# Altium schematic symbol library Sheye-Connector.SchLib: 120 symbols
Pins are listed as number, name and electrical type; pins without a type are passive.

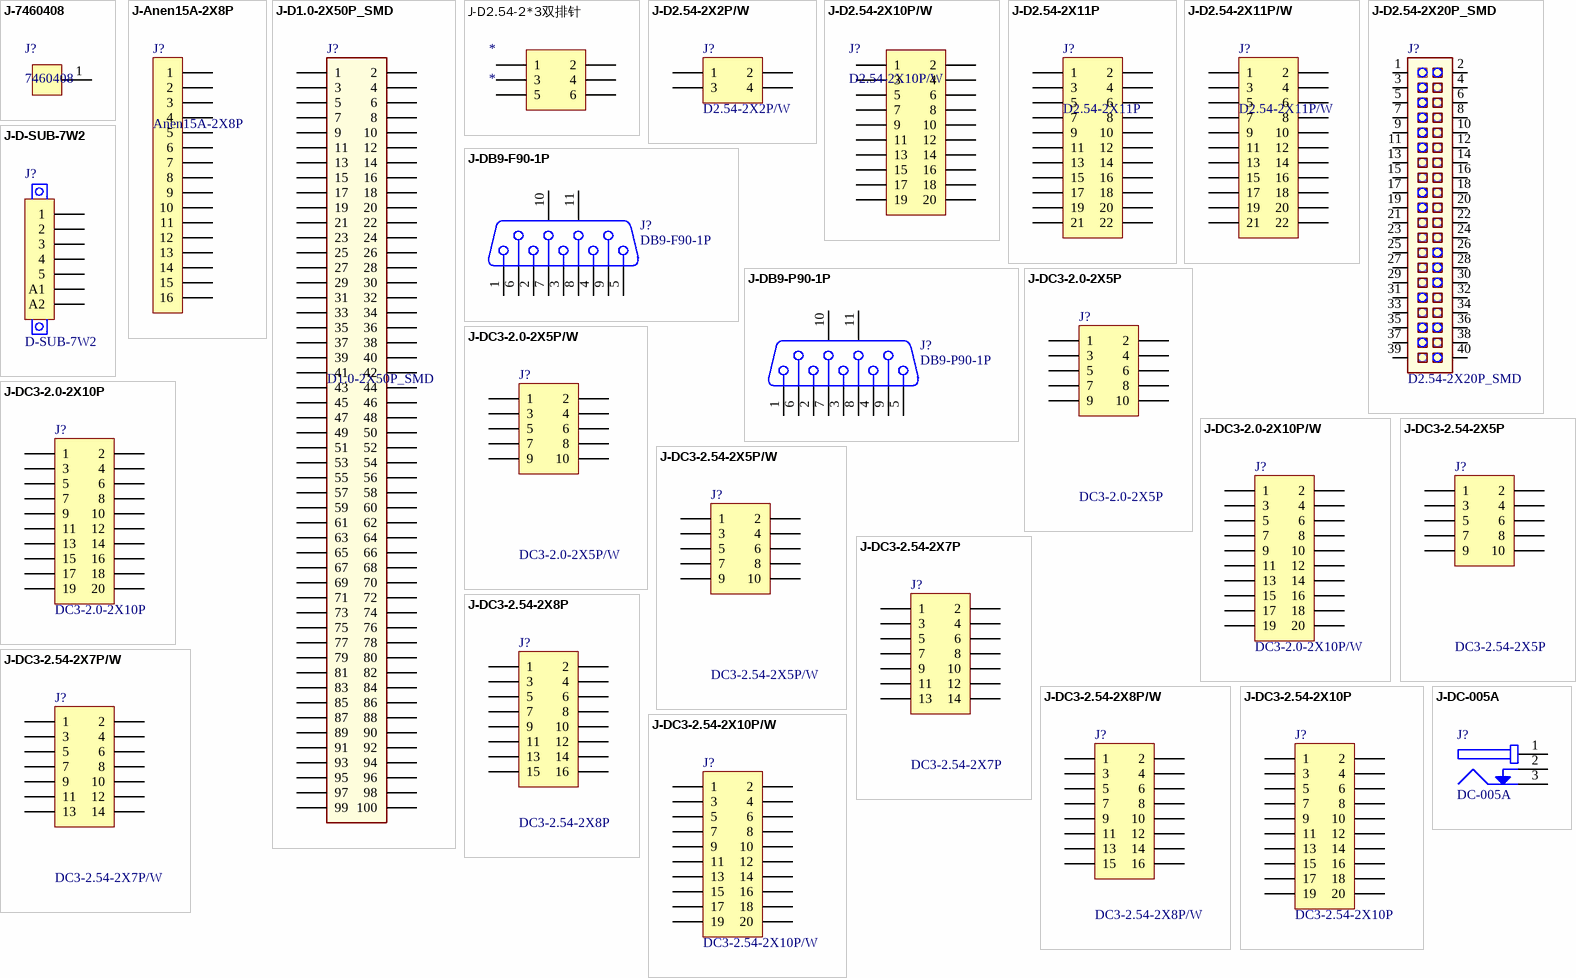
[diagram p0: symbols J-7460408 to J-DC-005A]

## J-7460408
designator J?, comment 7460408
PCB焊接导电螺栓; 生产商: 伍尔特; 货品编码: 无样品无编码; 规格型号: 7460408; 备注: *; 供应商: 伍尔特
footprint M5-PIN12F180 (PCB焊接导电螺栓)
pins: 1

## J-Anen15A-2X8P
designator J?, comment Anen15A-2X8P
单极电源连接器; 规格型号: 单级电源连接器 15A 插针 数目X2X8; 备注: 插针 清单数目要计算数目; 货品编码: 371046; 生产商: 安能; 供应商: 安能
footprint Anen15A-2X8P (单极电源连接器)
pins: 1, 2, 3, 4, 5, 6, 7, 8, 9, 10, 11, 12, 13, 14, 15, 16

## J-D1.0-2X50P_SMD
designator J?, comment D1.0-2X50P_SMD
双排排针-贴片; 规格型号: 3512x0M1110; 货品编码: 样品无编码; 供应商: Leyconn; 备注: *
footprint D1.0-2X50P_SMD (Footprint not found)
footprint J-D1.0-2X50P-F
pins: 1, 2, 3, 4, 5, 6, 7, 8, 9, 10, 11, 12, 13, 14, 15, 16, 17, 18, 19, 20, 21, 22, 23, 24, 25, 26, 27, 28, 29, 30, 31, 32, 33, 34, 35, 36, 37, 38, 39, 40, 41, 42, 43, 44, 45, 46, 47, 48, 49, 50, 51, 52, 53, 54, 55, 56, 57, 58, 59, 60, 61, 62, 63, 64, 65, 66, 67, 68, 69, 70, 71, 72, 73, 74, 75, 76, 77, 78, 79, 80, 81, 82, 83, 84, 85, 86, 87, 88, 89, 90, 91, 92, 93, 94, 95, 96, 97, 98, 99, 100

## J-D2.54-2*3双排针
designator *
footprint J-D2.54-2*3 (Footprint not found)
pins: 1, 2, 3, 4, 5, 6

## J-D2.54-2X2P/W
designator J?, comment D2.54-2X2P/W
双排排针-弯针; 规格型号: D2.54-2X11P/W; 货品编码: 372016; 供应商: *; 备注: *
footprint D2.54-2X2P/W/S1 (Footprint not found)
pins: 1, 2, 3, 4

## J-D2.54-2X10P/W
designator J?, comment D2.54-2X10P/W
双排排针-弯针; 规格型号: D2.54-2X10P/W
footprint D2.54-2X10P/W/S1 (Footprint not found)
pins: 1, 2, 3, 4, 5, 6, 7, 8, 9, 10, 11, 12, 13, 14, 15, 16, 17, 18, 19, 20

## J-D2.54-2X11P
designator J?, comment D2.54-2X11P
双排排针-直针; 货品编码: 样品无编码; 供应商: *; 规格型号: D2.54-2X11; 备注: *
footprint D2.54-2X11P (DUAL_ROW_Pin_R2.54-11P)
pins: 1, 2, 3, 4, 5, 6, 7, 8, 9, 10, 11, 12, 13, 14, 15, 16, 17, 18, 19, 20, 21, 22

## J-D2.54-2X11P/W
designator J?, comment D2.54-2X11P/W
双排排针-弯针; 货品编码: 372016; 供应商: *; 规格型号: D2.54-2X11P/W; 备注: *
footprint D2.54-2X11P/W/S1 (DUAL_ROW_Pin_R2.54-11P)
pins: 1, 2, 3, 4, 5, 6, 7, 8, 9, 10, 11, 12, 13, 14, 15, 16, 17, 18, 19, 20, 21, 22

## J-D2.54-2X20P_SMD
designator J?, comment D2.54-2X20P_SMD
双排排针-直针SMD; 规格型号: 1B29240_双排SMD-2x20P; 货品编码: 样品无编码; 供应商: ASTRON; 备注: *
footprint D2.54-2X20P_SMD
pins: 1, 2, 3, 4, 5, 6, 7, 8, 9, 10, 11, 12, 13, 14, 15, 16, 17, 18, 19, 20, 21, 22, 23, 24, 25, 26, 27, 28, 29, 30, 31, 32, 33, 34, 35, 36, 37, 38, 39, 40

## J-D-SUB-7W2
designator J?, comment D-SUB-7W2
接插件-弯针大电流; 货品编码: 样品无编码; 生产商: 创宇伟业; 供应商: *; 规格型号: D-SUB-7W2; 备注: *
footprint J-SUB-7W2
pins: 1, 2, 3, 4, 5, A1, A2

## J-DB9-F90-1P
designator J?, comment DB9-F90-1P
DB9-母座弯脚; 货品编码: 221010; 供应商: *; 规格型号: *; 备注: *
footprint DB9-F90-1P (DSUB-DB9L母)
pins: 1, 2, 3, 4, 5, 6, 7, 8, 9, 10 MH1, 11 MH2

## J-DB9-P90-1P
designator J?, comment DB9-P90-1P
DB9-公头弯脚; 规格型号: D-SUB9针 公头弯脚 单层 直插 有螺母; 货品编码: 无样品无编码; 供应商: *; 备注: *
footprint DB9-P90-1P (DSUB-DB9L公)
pins: 1, 2, 3, 4, 5, 6, 7, 8, 9, 10 MH1, 11 MH2

## J-DC3-2.0-2X5P
designator J?, comment DC3-2.0-2X5P
简牛插座-直针; 规格型号: 间距2.0 DC3 双排5P 简牛插座-直针; 货品编码: 无样品无编码; 生产商: 欧朗电子; 供应商: 欧朗电子; 备注: *
footprint DC3-2.0-2X5P (DC3-2.0-2X5P直脚)
pins: 1, 2, 3, 4, 5, 6, 7, 8, 9, 10

## J-DC3-2.0-2X5P/W
designator J?, comment DC3-2.0-2X5P/W
简牛插座-弯针; 规格型号: 间距2.0 DC3 双排5P 简牛插座-弯针; 货品编码: 无样品无编码; 生产商: 欧朗电子; 供应商: 欧朗电子; 备注: *
footprint DC3-2.0-2X5P/W (DC3-2.0-2x5P弯脚)
pins: 1, 2, 3, 4, 5, 6, 7, 8, 9, 10

## J-DC3-2.0-2X10P
designator J?, comment DC3-2.0-2X10P
简牛插座-直针; 规格型号: 间距2.0 DC3 双排10P 简牛插座-直针; 货品编码: 无样品无编码; 生产商: 欧朗电子; 供应商: 欧朗电子; 备注: *
footprint DC3-2.0-2X10P (DC3-2.0-2x10P直脚)
pins: 1, 2, 3, 4, 5, 6, 7, 8, 9, 10, 11, 12, 13, 14, 15, 16, 17, 18, 19, 20

## J-DC3-2.0-2X10P/W
designator J?, comment DC3-2.0-2X10P/W
简牛插座-弯针; 规格型号: 间距2.0 DC3 双排10P 简牛插座-弯针; 货品编码: 无样品无编码; 生产商: 欧朗电子; 供应商: 欧朗电子; 备注: *
footprint DC3-2.0-2X10P/W (DC3-2.0-2x10P弯脚)
pins: 1, 2, 3, 4, 5, 6, 7, 8, 9, 10, 11, 12, 13, 14, 15, 16, 17, 18, 19, 20

## J-DC3-2.54-2X5P
designator J?, comment DC3-2.54-2X5P
简牛插座-直针; 规格型号: 间距2.54 DC3 双排5P 简牛插座-直针; 货品编码: 371064; 生产商: 欧朗电子; 供应商: 欧朗电子; 备注: *
footprint DC3-2.54-2X5P (DC3-2.54-2x5P直脚)
pins: 1, 2, 3, 4, 5, 6, 7, 8, 9, 10

## J-DC3-2.54-2X5P/W
designator J?, comment DC3-2.54-2X5P/W
简牛插座-弯针; 规格型号: 间距2.54 DC3 双排5P 简牛插座-弯针; 货品编码: 无样品无编码; 生产商: 欧朗电子; 供应商: 欧朗电子; 备注: *
footprint DC3-2.54-2X5P/W (DC3-2.54-2x5P弯脚)
pins: 1, 2, 3, 4, 5, 6, 7, 8, 9, 10

## J-DC3-2.54-2X7P
designator J?, comment DC3-2.54-2X7P
简牛插座-直针; 规格型号: 间距2.54 DC3 双排7P 简牛插座-直针; 货品编码: 无样品无编码; 生产商: 欧朗电子; 供应商: 欧朗电子; 备注: *
footprint DC3-2.54-2X7P (DC3-2.54-2x7P直脚)
pins: 1, 2, 3, 4, 5, 6, 7, 8, 9, 10, 11, 12, 13, 14

## J-DC3-2.54-2X7P/W
designator J?, comment DC3-2.54-2X7P/W
简牛插座-弯针; 规格型号: 间距2.54 DC3 双排7P 简牛插座-弯针; 货品编码: 无样品无编码; 生产商: 欧朗电子; 供应商: 欧朗电子; 备注: *
footprint DC3-2.54-2X7P/W (DC3-2.54-2x7P弯脚)
pins: 1, 2, 3, 4, 5, 6, 7, 8, 9, 10, 11, 12, 13, 14

## J-DC3-2.54-2X8P
designator J?, comment DC3-2.54-2X8P
简牛插座-直针; 规格型号: 间距2.54 DC3 双排8P 简牛插座-直针; 货品编码: 无样品无编码; 生产商: 欧朗电子; 供应商: 欧朗电子; 备注: *
footprint DC3-2.54-2X8P (DC3-2.54-2x8P直脚)
pins: 1, 2, 3, 4, 5, 6, 7, 8, 9, 10, 11, 12, 13, 14, 15, 16

## J-DC3-2.54-2X8P/W
designator J?, comment DC3-2.54-2X8P/W
简牛插座-弯针; 规格型号: 间距2.54 DC3 双排8P 简牛插座-弯针; 货品编码: 无样品无编码; 生产商: 欧朗电子; 供应商: 欧朗电子; 备注: *
footprint DC3-2.54-2X8P/W (DC3-2.54-2x8P弯脚)
pins: 1, 2, 3, 4, 5, 6, 7, 8, 9, 10, 11, 12, 13, 14, 15, 16

## J-DC3-2.54-2X10P
designator J?, comment DC3-2.54-2X10P
简牛插座-直针; 规格型号: 间距2.54 DC3 双排10P 简牛插座-直针; 货品编码: 371101; 生产商: 欧朗电子; 供应商: 欧朗电子; 备注: *
footprint DC3-2.54-2X10P (DC3-2.54-2x10P直脚)
pins: 1, 2, 3, 4, 5, 6, 7, 8, 9, 10, 11, 12, 13, 14, 15, 16, 17, 18, 19, 20

## J-DC3-2.54-2X10P/W
designator J?, comment DC3-2.54-2X10P/W
简牛插座-弯针; 规格型号: 间距2.54 DC3 双排10P 简牛插座-弯针; 货品编码: 无样品无编码; 生产商: 欧朗电子; 供应商: 欧朗电子; 备注: *
footprint DC3-2.54-2X10P/W (DC3-2.54-2x10P弯脚)
pins: 1, 2, 3, 4, 5, 6, 7, 8, 9, 10, 11, 12, 13, 14, 15, 16, 17, 18, 19, 20

## J-DC-005A
designator J?, comment DC-005A
DC Jack; 规格型号: J-DC-005A 华锋电子; 货品编码: 225008; 备注: *
footprint J-DC-005A
pins: 1 IN, 2 GND, 3 GND

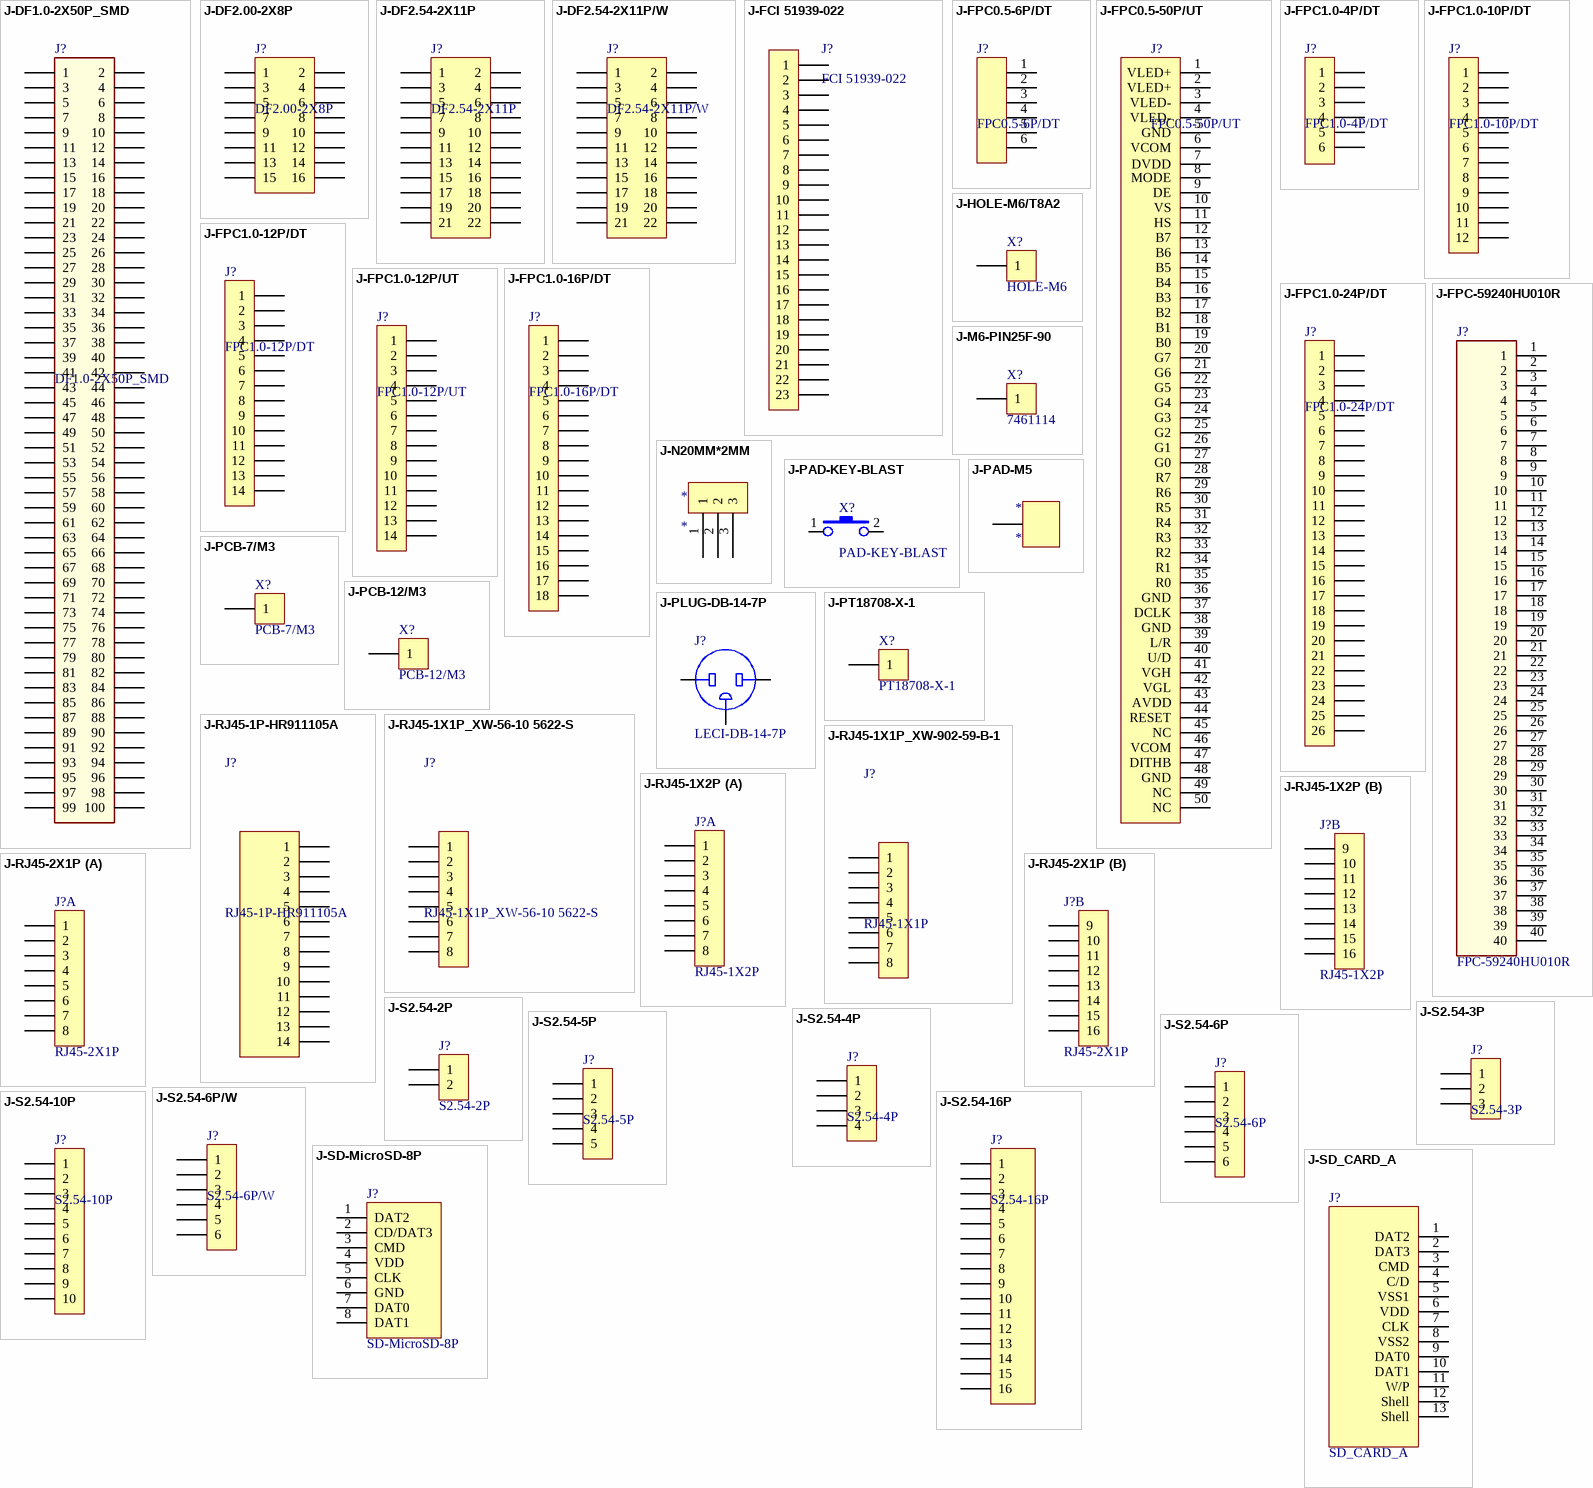
[diagram p1: symbols J-DF1.0-2X50P_SMD to J-SD_CARD_A]

## J-DF1.0-2X50P_SMD
designator J?, comment DF1.0-2X50P_SMD
双排排母-贴片; 规格型号: 2522x0M1110; 货品编码: 样品无编码; 供应商: Leyconn; 备注: *
footprint DF1.0-2X50P_SMD (Footprint not found)
pins: 1, 2, 3, 4, 5, 6, 7, 8, 9, 10, 11, 12, 13, 14, 15, 16, 17, 18, 19, 20, 21, 22, 23, 24, 25, 26, 27, 28, 29, 30, 31, 32, 33, 34, 35, 36, 37, 38, 39, 40, 41, 42, 43, 44, 45, 46, 47, 48, 49, 50, 51, 52, 53, 54, 55, 56, 57, 58, 59, 60, 61, 62, 63, 64, 65, 66, 67, 68, 69, 70, 71, 72, 73, 74, 75, 76, 77, 78, 79, 80, 81, 82, 83, 84, 85, 86, 87, 88, 89, 90, 91, 92, 93, 94, 95, 96, 97, 98, 99, 100

## J-DF2.00-2X8P
designator J?, comment DF2.00-2X8P
双排排母-直针; 货品编码: 无样品无编码; 供应商: *; 规格型号: DF2.00-2X8P; 备注: *
footprint DF2.00-2X8P (DUAL_ROW_FEMALE_D2.00-8P)
footprint DF2.00-2X8P (DUAL_ROW_FEMALE_D2.00-8P)
pins: 1, 2, 3, 4, 5, 6, 7, 8, 9, 10, 11, 12, 13, 14, 15, 16

## J-DF2.54-2X11P
designator J?, comment DF2.54-2X11P
双排排母-直针; 货品编码: 372017; 供应商: *; 规格型号: DF2.54-2X11P; 备注: *
footprint DF2.54-2X11P (DUAL_ROW_FEMALE_D2.54-11P)
pins: 1, 2, 3, 4, 5, 6, 7, 8, 9, 10, 11, 12, 13, 14, 15, 16, 17, 18, 19, 20, 21, 22

## J-DF2.54-2X11P/W
designator J?, comment DF2.54-2X11P/W
双排排母-弯针; 货品编码: 无样品无编码; 供应商: *; 规格型号: DF2.54-2X11P/W; 备注: *
footprint DF2.54-2X11P/W/S1 (DUAL_ROW_FEMALE_R2.54-11P)
pins: 1, 2, 3, 4, 5, 6, 7, 8, 9, 10, 11, 12, 13, 14, 15, 16, 17, 18, 19, 20, 21, 22

## J-FCI 51939-022
designator J?, comment FCI 51939-022
热插拔端子; 货品编码: 样品无编码; 规格型号: FCI 51939-022 热插拔输入输出端子; 生产商: *; 备注: *; 供应商: *
footprint FCI 51939-022 (Footprint not found)
pins: 1, 2, 3, 4, 5, 6, 7, 8, 9, 10, 11, 12, 13, 14, 15, 16, 17, 18, 19, 20, 21, 22, 23

## J-FPC0.5-6P/DT
designator J?, comment FPC0.5-6P/DT
FPC端子; 规格型号: FPC0.5-6P/DT 6P 脚间距0.5mm 下接触 抽屉式; 货品编码: 样品无编码; 供应商: *; 备注: *
footprint FPC0.5-6P/DT
footprint FPC0.5-6P/DT
pins: 1, 2, 3, 4, 5, 6

## J-FPC0.5-50P/UT
designator J?, comment FPC0.5-50P/UT
FPC端子; 规格型号: FPC0.5-50P/UT 50P 脚间距0.5mm 上接触 推进式; 货品编码: 样品无编码; 供应商: *; 备注: *
footprint FPC0.5-50P/UT (Footprint not found)
footprint FPC0.5-50P/UT
pins: 1 VLED+, 2 VLED+, 3 VLED-, 4 VLED-, 5 GND, 6 VCOM, 7 DVDD, 8 MODE, 9 DE, 10 VS, 11 HS, 12 B7, 13 B6, 14 B5, 15 B4, 16 B3, 17 B2, 18 B1, 19 B0, 20 G7, 21 G6, 22 G5, 23 G4, 24 G3, 25 G2, 26 G1, 27 G0, 28 R7, 29 R6, 30 R5, 31 R4, 32 R3, 33 R2, 34 R1, 35 R0, 36 GND, 37 DCLK, 38 GND, 39 L/R, 40 U/D, 41 VGH, 42 VGL, 43 AVDD, 44 RESET, 45 NC, 46 VCOM, 47 DITHB, 48 GND, 49 NC, 50 NC

## J-FPC1.0-4P/DT
designator J?, comment FPC1.0-4P/DT
FPC端子; 规格型号: FPC 4P 脚间距1.0mm 下接触 抽屉式; 货品编码: 样品无编码; 供应商: *; 备注: *
footprint FPC1.0-4P/DT
footprint FPC1.0-4P/DT
pins: 1, 2, 3, 4, 5, 6

## J-FPC1.0-10P/DT
designator J?, comment FPC1.0-10P/DT
FPC端子; 规格型号: FPC 10P 脚间距1.0mm 下接触 抽屉式; 货品编码: 371063; 供应商: *; 备注: *
footprint FPC1.0-10P/DT
pins: 1, 2, 3, 4, 5, 6, 7, 8, 9, 10, 11, 12

## J-FPC1.0-12P/DT
designator J?, comment FPC1.0-12P/DT
FPC端子; 规格型号: FPC 12P 脚间距1.0mm 下接触 抽屉式; 货品编码: 371062; 供应商: *; 备注: *
footprint FPC1.0-12P/DT (Footprint not found)
pins: 1, 2, 3, 4, 5, 6, 7, 8, 9, 10, 11, 12, 13, 14

## J-FPC1.0-12P/UT
designator J?, comment FPC1.0-12P/UT
FPC端子; 规格型号: FPC 12P 脚间距1.0mm 上接触 抽屉式; 货品编码: 371060; 供应商: *; 备注: *
footprint FPC1.0-12P/UT
pins: 1, 2, 3, 4, 5, 6, 7, 8, 9, 10, 11, 12, 13, 14

## J-FPC1.0-16P/DT
designator J?, comment FPC1.0-16P/DT
FPC端子; 规格型号: FPC 16P 脚间距1.0mm 下接触 抽屉式; 货品编码: 371061; 供应商: *; 备注: *
footprint FPC1.0-16P/DT
pins: 1, 2, 3, 4, 5, 6, 7, 8, 9, 10, 11, 12, 13, 14, 15, 16, 17, 18

## J-FPC1.0-24P/DT
designator J?, comment FPC1.0-24P/DT
FPC端子; 规格型号: FPC 24P 脚间距1.0mm 下接触 推进式; 货品编码: 371059; 供应商: *; 备注: *
footprint FPC1.0-24P/DT
pins: 1, 2, 3, 4, 5, 6, 7, 8, 9, 10, 11, 12, 13, 14, 15, 16, 17, 18, 19, 20, 21, 22, 23, 24, 25, 26

## J-FPC-59240HU010R
designator J?, comment FPC-59240HU010R
液晶屏接口; 货品编码: 样品无编码; 生产商: Leyconn; 规格型号: 59240HU010R; 备注: *
footprint FPC-59240HU010R
pins: 1, 2, 3, 4, 5, 6, 7, 8, 9, 10, 11, 12, 13, 14, 15, 16, 17, 18, 19, 20, 21, 22, 23, 24, 25, 26, 27, 28, 29, 30, 31, 32, 33, 34, 35, 36, 37, 38, 39, 40

## J-HOLE-M6/T8A2
designator X?, comment HOLE-M6
六角涨铆螺母; 规格型号: 六角涨铆螺母M6 六角部高8mm 铆接部高2mm; 货品编码: 374001; 备注: *; 供应商: *
footprint HOLE-M6 (HOLE5)
pins: 1

## J-M6-PIN25F-90
designator X?, comment 7461114
PCB焊接导电螺栓; 备注: M6 25全脚 90度侧面安装; 货品编码: 372026; 生产商: WURTH ELEKTRONIK; 供应商: WE; 规格型号: 7461114
footprint M6-PIN25F-90 (PCB焊接导电螺栓)
footprint M6-PIN25F-90 (PCB焊接导电螺栓)
pins: 1

## J-N20MM*2MM
designator *
footprint J-N20MM*2MM (Footprint not found)
pins: 1, 2, 3

## J-PAD-KEY-BLAST
designator X?, comment PAD-KEY-BLAST
焊盘; 货品编码: 非物料忽略; 供应商: *; 备注: *; 规格型号: PAD-KEY-BLAST
footprint PAD-KEY-BLAST
footprint PAD-KEY-BLAST
pins: 1, 2, 3, 4, 5, 6

## J-PAD-M5
designator *
footprint J-PAD-M5 (Footprint not found)
pins: 1

## J-PCB-7/M3
designator X?, comment PCB-7/M3
PCB焊接端子; 货品编码: 372024; 生产商: 康扬; 供应商: 康扬; 备注: *; 规格型号: PCB-7/M3
footprint PCB-7/M3 (PCB焊接端子)
footprint PCB-7/M3 (PCB焊接端子)
pins: 1

## J-PCB-12/M3
designator X?, comment PCB-12/M3
PCB焊接端子; 货品编码: 372012; 生产商: 康扬; 供应商: 康扬; 备注: *; 规格型号: PCB-12/M3
footprint PCB-12/M3
pins: 1

## J-PLUG-DB-14-7P
designator J?, comment LECI-DB-14-7P
电源插座; 货品编码: 225010; 生产商: LECI; 规格型号: LECI-DB-14-7P; 供应商: LECI; 备注: *
footprint LECI-DB-14-7P (DB-14-7P)
pins: 1, 2, 3

## J-PT18708-X-1
designator X?, comment PT18708-X-1
插片; 货品编码: 391009; 生产商: 乐清合力电子; 备注: *; 供应商: 乐清合力电子; 规格型号: PT18708-X-1
footprint PT18708-X-1
pins: 1

## J-RJ45-1P-HR911105A
designator J?, comment RJ45-1P-HR911105A
RJ45插座-隔离带灯; 规格型号: HR911105A 1P  隔离 带灯; 货品编码: 371027; 供应商: 中三汉仁; 备注: *
footprint RJ45-HR911105A-1P (RJ45-HR911105A)
pins: 1, 2, 3, 4, 5, 6, 7, 8, 9, 10, 11, 12, 13, 14

## J-RJ45-1X1P_XW-56-10 5622-S
designator J?, comment RJ45-1X1P_XW-56-10 5622-S
RJ45插座-非隔离不带灯; 规格型号: RJ45插座1P  非隔离 不带灯; 货品编码: 371026; 供应商: 迅旺电子科技; 备注: *
footprint RJ45-1P (RJ45-1)
pins: 1, 2, 3, 4, 5, 6, 7, 8

## J-RJ45-1X1P_XW-902-59-B-1
designator J?, comment RJ45-1X1P
RJ45插座1X1P非隔离不带灯; 品牌: 东莞迅旺; 规格型号: W-902-59-B-1 5921S 10P8C-1X1-F4.57; 货品编码: 372028; 供应商: 东莞迅旺; 备注: RJ45插座1X1P非隔离不带灯
footprint RJ45-10P8C-1X1-F4.57 (东莞迅旺 1X1 8PIN脚 非隔离不带灯XW-902-59-B-1)
pins: 1, 2, 3, 4, 5, 6, 7, 8

## J-RJ45-1X2P
designator J?, comment RJ45-1X2P
RJ45插座-非隔离不带灯; 规格型号: RJ45插座 1X2P 单层双座 非隔离 不带灯; 货品编码: 样品无编码; 供应商: *; 备注: *
footprint RJ45-1X2P (RJ45-1x2)
part A pins: 1, 2, 3, 4, 5, 6, 7, 8
part B pins: 9, 10, 11, 12, 13, 14, 15, 16

## J-RJ45-2X1P
designator J?, comment RJ45-2X1P
RJ45插座-非隔离不带灯; 规格型号: RJ45插座 2X1P 高低双层非 隔离 不带灯; 备注: XW-914-68-1 5921S 8P8C-2X1; 货品编码: 371100; 供应商: 东莞市迅旺电子
footprint RJ45-2X1P (RJ45-2x1)
part A pins: 1, 2, 3, 4, 5, 6, 7, 8
part B pins: 9, 10, 11, 12, 13, 14, 15, 16

## J-S2.54-2P
designator J?, comment S2.54-2P
单排排针-直针; 货品编码: 372013; 供应商: *; 规格型号: S2.54-2P; 备注: *
footprint S2.54-2P (Footprint not found)
pins: 1, 2

## J-S2.54-3P
designator J?, comment S2.54-3P
单排排针-直针; 货品编码: 372015; 供应商: *; 规格型号: S2.54-3P; 备注: *
footprint S2.54-3P (Footprint not found)
pins: 1, 2, 3

## J-S2.54-4P
designator J?, comment S2.54-4P
单排排针-直针; 货品编码: 样品无编码; 供应商: *; 规格型号: S2.54-4P; 备注: *
footprint S2.54-4P (Footprint not found)
pins: 1, 2, 3, 4

## J-S2.54-5P
designator J?, comment S2.54-5P
单排排针-直针; 货品编码: 样品无编码; 供应商: *; 规格型号: S2.54-5P; 备注: *
footprint S2.54-5P (P-SIP5)
pins: 1, 2, 3, 4, 5

## J-S2.54-6P
designator J?, comment S2.54-6P
单排排针-直针; 备注: 不可用伍尔特的料; 货品编码: 372002; 供应商: *; 规格型号: S2.54-6P
footprint S2.54-6P (P-SIP6)
pins: 1, 2, 3, 4, 5, 6

## J-S2.54-6P/W
designator J?, comment S2.54-6P/W
单排排针-弯针; 货品编码: 样品无编码; 供应商: *; 规格型号: S2.54-6P/W; 备注: *
footprint S2.54-6P/W (P-SIP6-W)
pins: 1, 2, 3, 4, 5, 6

## J-S2.54-10P
designator J?, comment S2.54-10P
单排排针-直针; 货品编码: 样品无编码; 供应商: *; 规格型号: S2.54-10P; 备注: *
footprint S2.54-10P (P-SIP10)
pins: 1, 2, 3, 4, 5, 6, 7, 8, 9, 10

## J-S2.54-16P
designator J?, comment S2.54-16P
单排排针-直针; 货品编码: 样品无编码; 供应商: *; 规格型号: S2.54-16P; 备注: *
footprint S2.54-16P (P-SIP16)
pins: 1, 2, 3, 4, 5, 6, 7, 8, 9, 10, 11, 12, 13, 14, 15, 16

## J-SD-MicroSD-8P
designator J?, comment SD-MicroSD-8P
SD卡座 Micro 8P翻盖式; 货品编码: 样品无编码; 生产商: 锐泰科技
footprint MicroSD-8P
pins: 1 DAT2, 2 CD/DAT3, 3 CMD, 4 VDD (power), 5 CLK, 6 GND, 7 DAT0 (power), 8 DAT1

## J-SD_CARD_A
designator J?, comment SD_CARD_A
SD卡座; 规格型号: SD卡座 自弹 插入检测; 货品编码: 233011; 供应商: *; 备注: *
footprint SD_CARD_A
pins: 1 DAT2, 2 DAT3, 3 CMD, 4 C/D (power), 5 VSS1, 6 VDD, 7 CLK (power), 8 VSS2, 9 DAT0, 10 DAT1, 11 W/P, 12 Shell, 13 Shell

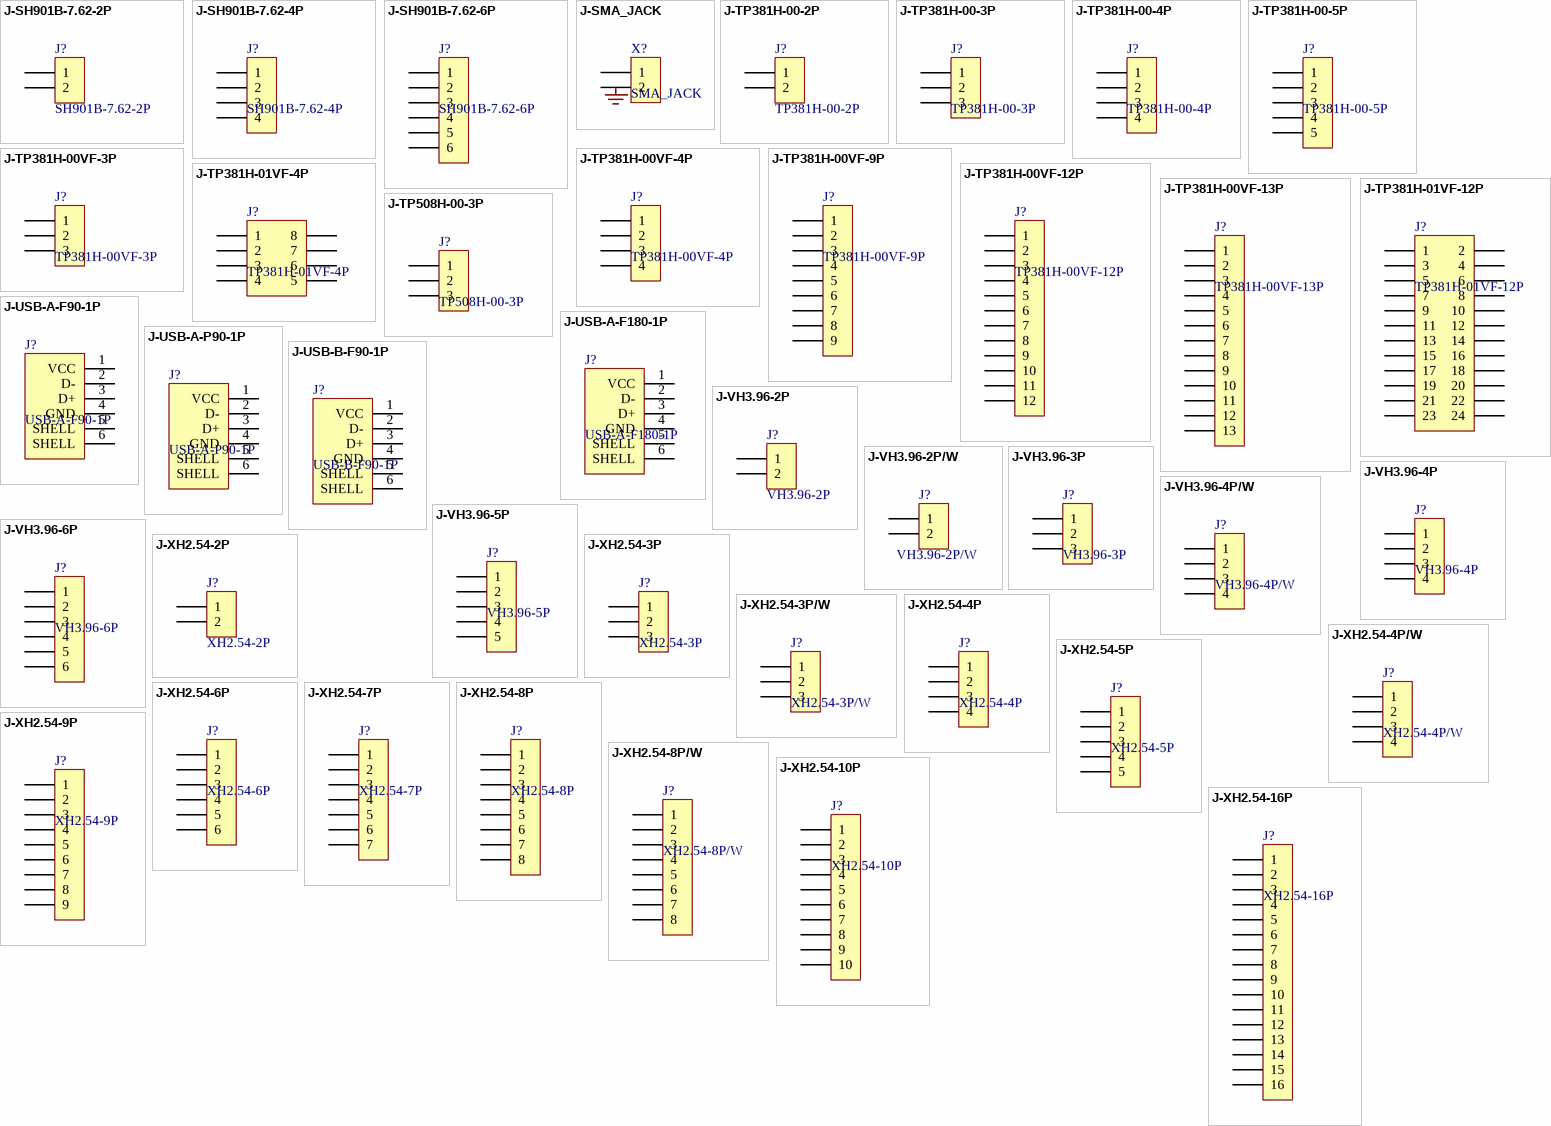
[diagram p2: symbols J-SH901B-7.62-2P to J-XH2.54-16P]

## J-SH901B-7.62-2P
designator J?, comment SH901B-7.62-2P
栅栏端子-直针; 规格型号: SH901B-7.62-2P 直针; 货品编码: 371044; 供应商: *; 备注: *
footprint SH901-7.62-2P
pins: 1, 2

## J-SH901B-7.62-4P
designator J?, comment SH901B-7.62-4P
栅栏端子-直针; 规格型号: SH901B-7.62-4P 直针; 货品编码: 371031; 供应商: *; 备注: *
footprint SH901-7.62-4P
pins: 1, 2, 3, 4

## J-SH901B-7.62-6P
designator J?, comment SH901B-7.62-6P
栅栏端子-直针; 规格型号: SH901B-7.62-6P 直针; 货品编码: 371032; 供应商: *; 备注: *
footprint SH901-7.62-6P
pins: 1, 2, 3, 4, 5, 6

## J-SMA_JACK
designator X?, comment SMA_JACK
四角直头; 备注: 天线插座; 货品编码: 221009; 供应商: *; 规格型号: SMA_JACK
footprint SMA_JACK
footprint SMA_JACK
pins: 1, 2

## J-TP381H-00-2P
designator J?, comment TP381H-00-2P
接插件-3.81立式; 备注: 3.81 2P 不带锁插座; 货品编码: 371070; 供应商: *; 规格型号: TP381H-00-2P
footprint TP381H-00-2P
pins: 1, 2

## J-TP381H-00-3P
designator J?, comment TP381H-00-3P
接插件-3.81立式; 备注: 3.81 3P 不带锁插座; 货品编码: 371072; 供应商: *; 规格型号: TP381H-00-3P
footprint TP381H-00-3P
pins: 1, 2, 3

## J-TP381H-00-4P
designator J?, comment TP381H-00-4P
接插件-3.81立式; 备注: 3.81 4P 不带锁插座; 货品编码: 371074; 供应商: *; 规格型号: TP381H-00-4P
footprint TP381H-00-4P
pins: 1, 2, 3, 4

## J-TP381H-00-5P
designator J?, comment TP381H-00-5P
接插件-3.81立式; 备注: 3.81 5P 不带锁插座; 货品编码: 371076; 供应商: *; 规格型号: TP381H-00-5P
footprint TP381H-00-5P
pins: 1, 2, 3, 4, 5

## J-TP381H-00VF-3P
designator J?, comment TP381H-00VF-3P
接插件-3.81卧式; 备注: 3.81 3P 带锁插座; 货品编码: 371034; 供应商: *; 规格型号: TP381H-00VF-3P
footprint TP381H-00VF-3P
pins: 1, 2, 3

## J-TP381H-00VF-4P
designator J?, comment TP381H-00VF-4P
接插件-3.81卧式; 备注: 3.81 4P  带锁插座; 货品编码: 371036; 供应商: *; 规格型号: TP381H-00VF-4P
footprint TP381H-00VF-4P
pins: 1, 2, 3, 4

## J-TP381H-00VF-9P
designator J?, comment TP381H-00VF-9P
接插件-3.81卧式; 备注: 3.81 12P 带锁插座; 货品编码: 无样品无编码; 供应商: *; 规格型号: TP381H-00VF-9P
footprint TP381H-00VF-9P
pins: 1, 2, 3, 4, 5, 6, 7, 8, 9

## J-TP381H-00VF-12P
designator J?, comment TP381H-00VF-12P
接插件-3.81卧式; 备注: 3.81 12P 带锁插座; 货品编码: 无样品无编码; 供应商: *; 规格型号: TP381H-00VF-12P
footprint TP381H-00VF-12P
pins: 1, 2, 3, 4, 5, 6, 7, 8, 9, 10, 11, 12

## J-TP381H-00VF-13P
designator J?, comment TP381H-00VF-13P
接插件-3.81卧式; 备注: 3.81 13P 带锁插座; 货品编码: 371038; 供应商: *; 规格型号: TP381H-00VF-13P
footprint TP381H-00VF-13P (Footprint not found)
pins: 1, 2, 3, 4, 5, 6, 7, 8, 9, 10, 11, 12, 13

## J-TP381H-01VF-4P
designator J?, comment TP381H-01VF-4P
接插件-3.81卧式; 备注: 3.81 双层4P 带锁插座; 货品编码: 371039; 供应商: *; 规格型号: TP381H-01VF-4P
footprint TP381H-01VF-4P (TP3.81H-01VF-LOCK)
pins: 1, 2, 3, 4, 5, 6, 7, 8

## J-TP381H-01VF-12P
designator J?, comment TP381H-01VF-12P
接插件-3.81卧式; 备注: 3.81 双层12P 带锁插座; 货品编码: 371005; 供应商: *; 规格型号: TP381H-01VF-12P
footprint TP381H-01VF-12P (TP3.81H-01VF-12P-LOCK)
pins: 1, 2, 3, 4, 5, 6, 7, 8, 9, 10, 11, 12, 13, 14, 15, 16, 17, 18, 19, 20, 21, 22, 23, 24

## J-TP508H-00-3P
designator J?, comment TP508H-00-3P
接插件-5.08立式; 备注: 5.08 3P 不带锁插座; 货品编码: 371086; 供应商: *; 规格型号: TP508H-00-3P
footprint TP508H-00-3P
pins: 1, 2, 3

## J-USB-A-F90-1P
designator J?, comment USB-A-F90-1P
USB-A卧式插座; 规格型号: USB-A母座90°全包 单层 直插; 货品编码: 373001; 供应商: *; 备注: *
footprint USB-A-F90-1P (USB-A卧式插座)
pins: 1 VCC, 2 D-, 3 D+, 4 GND, 5 SHELL, 6 SHELL

## J-USB-A-F180-1P
designator J?, comment USB-A-F180-1P
USB-A立式插座; 规格型号: USB-A母座180°全包 单层 直插; 货品编码: 无样品无编码; 供应商: *; 备注: *
footprint USB-A-F180-1P (USB-A立式插座)
pins: 1 VCC, 2 D-, 3 D+, 4 GND, 5 SHELL, 6 SHELL

## J-USB-A-P90-1P
designator J?, comment USB-A-P90-1P
USB-A插头; 规格型号: USB-A插头90°全包 单层 直插; 货品编码: 无样品无编码; 供应商: *; 备注: *
footprint USB-A-P90-1P (USB-A插头)
pins: 1 VCC, 2 D-, 3 D+, 4 GND, 5 SHELL, 6 SHELL

## J-USB-B-F90-1P
designator J?, comment USB-B-F90-1P
USB-B卧式插座; 规格型号: USB-B母座90°全包 单层 直插; 货品编码: 373002; 供应商: *; 备注: *
footprint USB-B-F90-1P (USB-B插座)
pins: 1 VCC, 2 D-, 3 D+, 4 GND, 5 SHELL, 6 SHELL

## J-VH3.96-2P
designator J?, comment VH3.96-2P
接插件-3.96; 货品编码: 371090; 供应商: *; 规格型号: VH3.96-2P; 备注: *
footprint VH3.96-2P
pins: 1, 2

## J-VH3.96-2P/W
designator J?, comment VH3.96-2P/W
接插件-3.96卧式; 货品编码: 371024; 供应商: *; 规格型号: VH3.96-2P/W; 备注: *
footprint VH3.96-2P/W (Right Angle DIP Type. Pin Length=13.4mm)
pins: 1, 2

## J-VH3.96-3P
designator J?, comment VH3.96-3P
接插件-3.96; 货品编码: 371093; 供应商: *; 规格型号: VH3.96-3P; 备注: *
footprint VH3.96-3P
pins: 1, 2, 3

## J-VH3.96-4P
designator J?, comment VH3.96-4P
接插件-3.96; 备注: 对应插头编码371067; 货品编码: 371068; 供应商: *; 规格型号: VH3.96-4P
footprint VH3.96-4P
pins: 1, 2, 3, 4

## J-VH3.96-4P/W
designator J?, comment VH3.96-4P/W
接插件-3.96卧式; 备注: 对应插头编码371067; 货品编码: 371096; 供应商: *; 规格型号: VH3.96-4P/W
footprint VH3.96-4P/W (Right Angle DIP Type. Pin Length=13.4mm)
pins: 1, 2, 3, 4

## J-VH3.96-5P
designator J?, comment VH3.96-5P
接插件-3.96; 备注: 对应插头编码371089; 货品编码: 371001; 供应商: *; 规格型号: VH3.96-5P
footprint VH3.96-5P
pins: 1, 2, 3, 4, 5

## J-VH3.96-6P
designator J?, comment VH3.96-6P
接插件-3.96; 货品编码: 371091; 供应商: *; 规格型号: VH3.96-6P; 备注: *
footprint VH3.96-6P
pins: 1, 2, 3, 4, 5, 6

## J-XH2.54-2P
designator J?, comment XH2.54-2P
接插件-2.54; 货品编码: 371007; 供应商: *; 规格型号: XH2.54-2P; 备注: *
footprint XH2.54-2P
pins: 1, 2

## J-XH2.54-3P
designator J?, comment XH2.54-3P
接插件-2.54; 货品编码: 371009; 供应商: *; 规格型号: XH2.54-3P; 备注: *
footprint XH2.54-3P
pins: 1, 2, 3

## J-XH2.54-3P/W
designator J?, comment XH2.54-3P/W
接插件-2.54卧式; 规格型号: XH2.54-3P 卧式; 货品编码: 371098; 供应商: *; 备注: *
footprint XH2.54-3P/W
pins: 1, 2, 3

## J-XH2.54-4P
designator J?, comment XH2.54-4P
接插件-2.54; 货品编码: 371015; 供应商: *; 规格型号: XH2.54-4P; 备注: *
footprint XH2.54-4P
pins: 1, 2, 3, 4

## J-XH2.54-4P/W
designator J?, comment XH2.54-4P/W
接插件-2.54卧式; 规格型号: XH2.54-4P  卧式; 货品编码: 371029; 供应商: *; 备注: *
footprint XH2.54-4P/W
pins: 1, 2, 3, 4

## J-XH2.54-5P
designator J?, comment XH2.54-5P
接插件-2.54; 货品编码: 371016; 供应商: *; 规格型号: XH2.54-5P; 备注: *
footprint XH2.54-5P
pins: 1, 2, 3, 4, 5

## J-XH2.54-6P
designator J?, comment XH2.54-6P
接插件-2.54; 货品编码: 371017; 供应商: *; 规格型号: XH2.54-6P; 备注: *
footprint XH2.54-6P
pins: 1, 2, 3, 4, 5, 6

## J-XH2.54-7P
designator J?, comment XH2.54-7P
接插件-2.54; 货品编码: 371099; 供应商: *; 规格型号: XH2.54-7P; 备注: *
footprint XH2.54-7P
pins: 1, 2, 3, 4, 5, 6, 7

## J-XH2.54-8P
designator J?, comment XH2.54-8P
接插件-2.54; 备注: 对应插头编码371030; 货品编码: 371018; 供应商: *; 规格型号: XH2.54-8P
footprint XH2.54-8P
pins: 1, 2, 3, 4, 5, 6, 7, 8

## J-XH2.54-8P/W
designator J?, comment XH2.54-8P/W
接插件-2.54卧式; 规格型号: XH2.54-8P  卧式; 货品编码: 371042; 供应商: *; 备注: *
footprint XH2.54-8P/W (Footprint not found)
pins: 1, 2, 3, 4, 5, 6, 7, 8

## J-XH2.54-9P
designator J?, comment XH2.54-9P
接插件-2.54; 货品编码: 无样品无编码; 供应商: *; 规格型号: XH2.54-9P; 备注: *
footprint XH2.54-9P
pins: 1, 2, 3, 4, 5, 6, 7, 8, 9

## J-XH2.54-10P
designator J?, comment XH2.54-10P
接插件-2.54; 货品编码: 无样品无编码; 供应商: *; 规格型号: XH2.54-10P; 备注: *
footprint XH2.54-10P
pins: 1, 2, 3, 4, 5, 6, 7, 8, 9, 10

## J-XH2.54-16P
designator J?, comment XH2.54-16P
接插件-2.54; 货品编码: 371019; 供应商: *; 规格型号: XH2.54-16P; 备注: *
footprint XH2.54-16P (Footprint not found)
pins: 1, 2, 3, 4, 5, 6, 7, 8, 9, 10, 11, 12, 13, 14, 15, 16

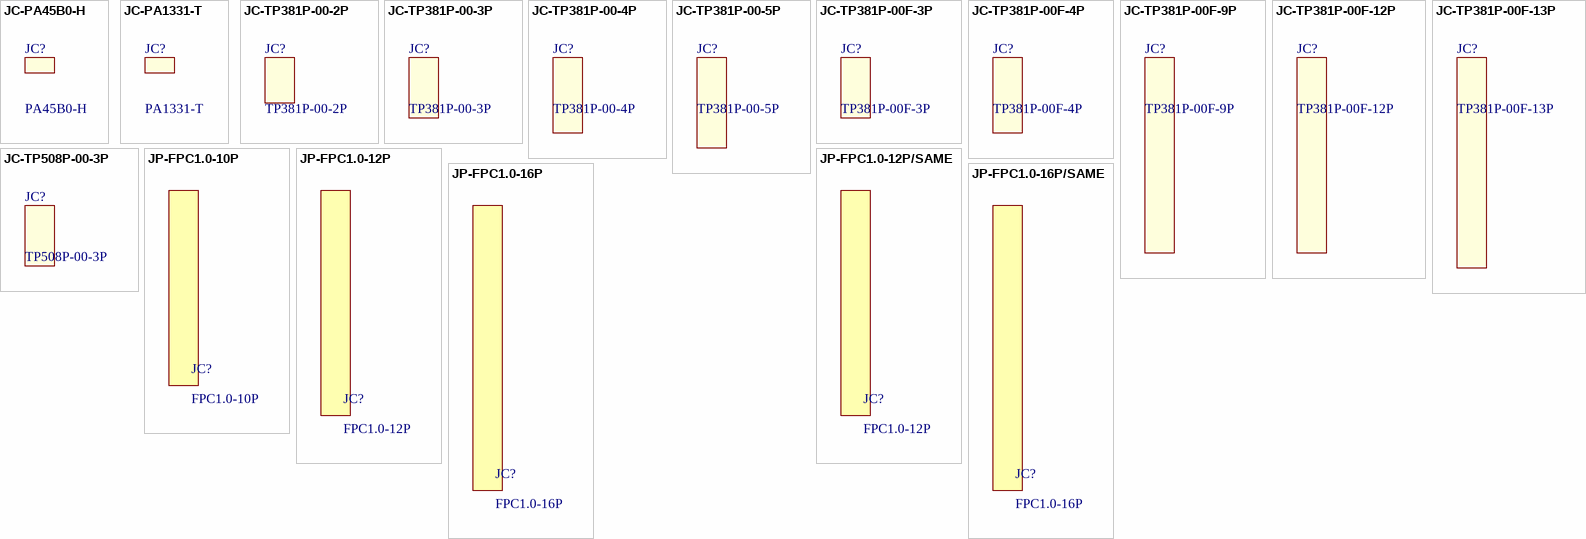
[diagram p3: symbols JC-PA45B0-H to JP-FPC1.0-16P/SAME]

## JC-PA45B0-H
designator JC?, comment PA45B0-H
外壳-单极电源连接器; 备注: 外壳; 货品编码: 371045; 生产商: 安能; 供应商: 安能; 规格型号: PA45B0-H

## JC-PA1331-T
designator JC?, comment PA1331-T
插头-单极电源连接器; 备注: 插头 金属件; 货品编码: 371047; 生产商: 安能; 供应商: 安能; 规格型号: PA1331-T

## JC-TP381P-00-2P
designator JC?, comment TP381P-00-2P
插头-TP381不带锁; 备注: 3.81 2P 不带锁 插头; 货品编码: 371069; 供应商: *; 规格型号: TP381P-00-2P

## JC-TP381P-00-3P
designator JC?, comment TP381P-00-3P
插头-TP381不带锁; 备注: 3.81 3P 不带锁 插头; 货品编码: 371071; 供应商: *; 规格型号: TP381P-00-3P

## JC-TP381P-00-4P
designator JC?, comment TP381P-00-4P
插头-TP381不带锁; 备注: 3.81 4P 不带锁 插头; 货品编码: 371073; 供应商: *; 规格型号: TP381P-00-4P

## JC-TP381P-00-5P
designator JC?, comment TP381P-00-5P
插头-TP381不带锁; 备注: 3.81 5P 不带锁 插头; 货品编码: 371077; 供应商: *; 规格型号: TP381P-00-5P

## JC-TP381P-00F-3P
designator JC?, comment TP381P-00F-3P
插头-TP381带锁; 备注: 3.81 3P 带锁 插头; 货品编码: 371033; 供应商: *; 规格型号: TP381P-00F-3P

## JC-TP381P-00F-4P
designator JC?, comment TP381P-00F-4P
插头-TP381带锁; 备注: 3.81 4P 带锁插头; 货品编码: 371035; 供应商: *; 规格型号: TP381P-00F-4P

## JC-TP381P-00F-9P
designator JC?, comment TP381P-00F-9P
插头-TP381带锁; 备注: 3.81 9P 带锁 插头; 货品编码: 无样品无编码; 供应商: *; 规格型号: TP381P-00F-9P

## JC-TP381P-00F-12P
designator JC?, comment TP381P-00F-12P
插头-TP381带锁; 备注: 3.81 12P 带锁 插头; 货品编码: 371004; 供应商: *; 规格型号: TP381P-00F-12P

## JC-TP381P-00F-13P
designator JC?, comment TP381P-00F-13P
插头-TP381带锁; 备注: 3.81 13P 带锁 插头; 货品编码: 371037; 供应商: *; 规格型号: TP381P-00F-13P

## JC-TP508P-00-3P
designator JC?, comment TP508P-00-3P
插头-TP508不带锁; 备注: 5.08 3P 不带锁 插头; 货品编码: 371085; 供应商: *; 规格型号: TP508P-00-3P

## JP-FPC1.0-10P
designator JC?, comment FPC1.0-10P
排线-FPC1.0 反向; 备注: 反向 300mm; 货品编码: 231019; 供应商: *; 规格型号: FPC1.0-10P; 生产商: *

## JP-FPC1.0-12P
designator JC?, comment FPC1.0-12P
排线-FPC1.0 反向; 备注: 反向 110mm; 货品编码: 231020; 供应商: *; 规格型号: FPC1.0-12P; 生产商: *

## JP-FPC1.0-12P/SAME
designator JC?, comment FPC1.0-12P
排线-FPC1.0 同向; 备注: 同向 110mm; 货品编码: 231018; 供应商: *; 规格型号: FPC1.0-12P; 生产商: *

## JP-FPC1.0-16P
designator JC?, comment FPC1.0-16P
排线-FPC1.0 反向; 备注: 反向 120mm; 货品编码: 231030; 供应商: *; 规格型号: FPC1.0-16P; 生产商: *

## JP-FPC1.0-16P/SAME
designator JC?, comment FPC1.0-16P
排线-FPC1.0 同向; 备注: 同向 80mm; 货品编码: 231037; 供应商: *; 规格型号: FPC1.0-16P; 生产商: *